# EAGLE library part MSD-1-A (library MSD-1-A)
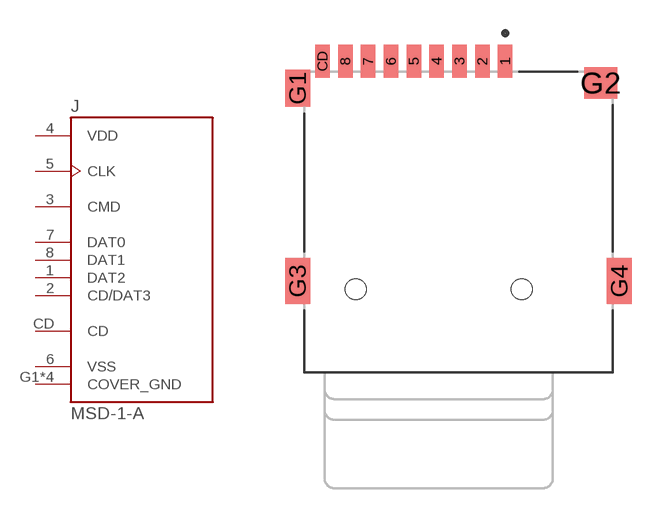
[diagram p0: symbol with the pads of CUI_MSD-1-A; footprint CUI_MSD-1-A]

Designator prefix J

## MSD-1-A (MANUFACTURER: CUI Devices; MAXIMUM_PACKAGE_HEIGHT: 2.00mm; PARTREV: 1.0; STANDARD: Manufacturer Recommendations)  [CUI_MSD-1-A]
1  DAT2
2  CD/DAT3
3  CMD
4  VDD  pwr
5  CLK  in
6  VSS  pwr
7  DAT0
8  DAT1
CD  CD  pas
G1  COVER_GND  pwr
G2  COVER_GND  pwr
G3  COVER_GND  pwr
G4  COVER_GND  pwr

## Footprint CUI_MSD-1-A (pad centres in mm)
smd 0.7 x 1.6: 1 2.25,7.75; 2 1.15,7.75; 3 0.05,7.75; 4 -1.05,7.75; 5 -2.15,7.75; 6 -3.25,7.75; 7 -4.35,7.75; 8 -5.45,7.75; CD -6.55,7.75
smd 1.2 x 1.8: G1 -7.75,6.45
smd 1.6 x 1.5: G2 6.85,6.7
smd 1.2 x 2.2: G3 -7.75,-2.85; G4 7.75,-2.85
hole 1 at -4.95,-3.25
hole 1 at 3.05,-3.25